# EAGLE library part XC3S200-4FT256I (library SamacSys_Parts)
FPGA - Field Programmable Gate Array 200000 SYSTEM GATE 1.2 VOLT FPGA Source: Datasheet <http://www.xilinx.com/support/documentation/data_sheets/ds099.pdf>
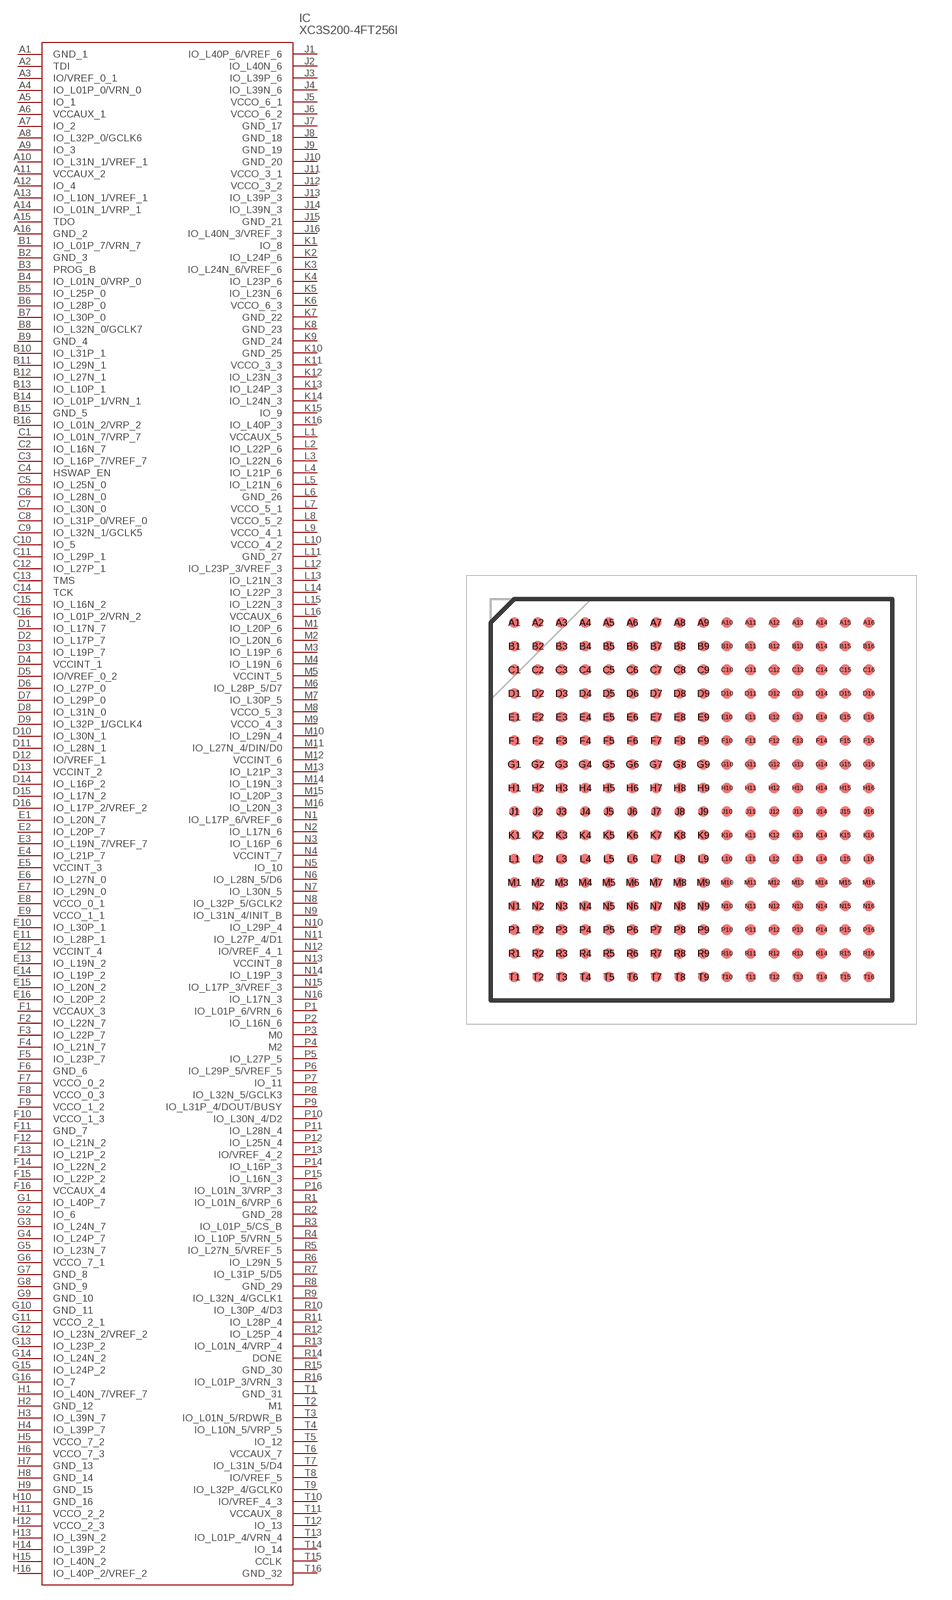
[diagram p180: symbol with the pads of BGA256C100P16X16_1700X1700X155; footprint BGA256C100P16X16_1700X1700X155]

Designator prefix IC

## XC3S200-4FT256I (DESCRIPTION: FPGA - Field Programmable Gate Array 200000 SYSTEM GATE 1.2 VOLT FPGA; HEIGHT: 1.55mm; MANUFACTURER_NAME: XILINX; MANUFACTURER_PART_NUMBER: XC3S200-4FT256I; MOUSER_PART_NUMBER: 217-XC3S200-4FT256I; MOUSER_PRICE-STOCK: https://www.mouser.co.uk/ProductDetail/Xilinx/XC3S200-4FT256I?qs=rrS6PyfT74esfp1HZHSLZw%3D%3D)  [BGA256C100P16X16_1700X1700X155]
A1  GND_1
A2  TDI
A3  IO/VREF_0_1
A4  IO_L01P_0/VRN_0
A5  IO_1
A6  VCCAUX_1
A7  IO_2
A8  IO_L32P_0/GCLK6
A9  IO_3
A10  IO_L31N_1/VREF_1
A11  VCCAUX_2
A12  IO_4
A13  IO_L10N_1/VREF_1
A14  IO_L01N_1/VRP_1
A15  TDO
A16  GND_2
B1  IO_L01P_7/VRN_7
B2  GND_3
B3  PROG_B
B4  IO_L01N_0/VRP_0
B5  IO_L25P_0
B6  IO_L28P_0
B7  IO_L30P_0
B8  IO_L32N_0/GCLK7
B9  GND_4
B10  IO_L31P_1
B11  IO_L29N_1
B12  IO_L27N_1
B13  IO_L10P_1
B14  IO_L01P_1/VRN_1
B15  GND_5
B16  IO_L01N_2/VRP_2
C1  IO_L01N_7/VRP_7
C2  IO_L16N_7
C3  IO_L16P_7/VREF_7
C4  HSWAP_EN
C5  IO_L25N_0
C6  IO_L28N_0
C7  IO_L30N_0
C8  IO_L31P_0/VREF_0
C9  IO_L32N_1/GCLK5
C10  IO_5
C11  IO_L29P_1
C12  IO_L27P_1
C13  TMS
C14  TCK
C15  IO_L16N_2
C16  IO_L01P_2/VRN_2
D1  IO_L17N_7
D2  IO_L17P_7
D3  IO_L19P_7
D4  VCCINT_1
D5  IO/VREF_0_2
D6  IO_L27P_0
D7  IO_L29P_0
D8  IO_L31N_0
D9  IO_L32P_1/GCLK4
D10  IO_L30N_1
D11  IO_L28N_1
D12  IO/VREF_1
D13  VCCINT_2
D14  IO_L16P_2
D15  IO_L17N_2
D16  IO_L17P_2/VREF_2
E1  IO_L20N_7
E2  IO_L20P_7
E3  IO_L19N_7/VREF_7
E4  IO_L21P_7
E5  VCCINT_3
E6  IO_L27N_0
E7  IO_L29N_0
E8  VCCO_0_1
E9  VCCO_1_1
E10  IO_L30P_1
E11  IO_L28P_1
E12  VCCINT_4
E13  IO_L19N_2
E14  IO_L19P_2
E15  IO_L20N_2
E16  IO_L20P_2
F1  VCCAUX_3
F2  IO_L22N_7
F3  IO_L22P_7
F4  IO_L21N_7
F5  IO_L23P_7
F6  GND_6
F7  VCCO_0_2
F8  VCCO_0_3
F9  VCCO_1_2
F10  VCCO_1_3
F11  GND_7
F12  IO_L21N_2
F13  IO_L21P_2
F14  IO_L22N_2
F15  IO_L22P_2
F16  VCCAUX_4
G1  IO_L40P_7
G2  IO_6
G3  IO_L24N_7
G4  IO_L24P_7
G5  IO_L23N_7
G6  VCCO_7_1
G7  GND_8
G8  GND_9
G9  GND_10
G10  GND_11
G11  VCCO_2_1
G12  IO_L23N_2/VREF_2
G13  IO_L23P_2
G14  IO_L24N_2
G15  IO_L24P_2
G16  IO_7
H1  IO_L40N_7/VREF_7
H2  GND_12
H3  IO_L39N_7
H4  IO_L39P_7
H5  VCCO_7_2
H6  VCCO_7_3
H7  GND_13
H8  GND_14
H9  GND_15
H10  GND_16
H11  VCCO_2_2
H12  VCCO_2_3
H13  IO_L39N_2
H14  IO_L39P_2
H15  IO_L40N_2
H16  IO_L40P_2/VREF_2
J1  IO_L40P_6/VREF_6
J2  IO_L40N_6
J3  IO_L39P_6
J4  IO_L39N_6
J5  VCCO_6_1
J6  VCCO_6_2
J7  GND_17
J8  GND_18
J9  GND_19
J10  GND_20
J11  VCCO_3_1
J12  VCCO_3_2
J13  IO_L39P_3
J14  IO_L39N_3
J15  GND_21
J16  IO_L40N_3/VREF_3
K1  IO_8
K2  IO_L24P_6
K3  IO_L24N_6/VREF_6
K4  IO_L23P_6
K5  IO_L23N_6
K6  VCCO_6_3
K7  GND_22
K8  GND_23
K9  GND_24
K10  GND_25
K11  VCCO_3_3
K12  IO_L23N_3
K13  IO_L24P_3
K14  IO_L24N_3
K15  IO_9
K16  IO_L40P_3
L1  VCCAUX_5
L2  IO_L22P_6
L3  IO_L22N_6
L4  IO_L21P_6
L5  IO_L21N_6
L6  GND_26
L7  VCCO_5_1
L8  VCCO_5_2
L9  VCCO_4_1
L10  VCCO_4_2
L11  GND_27
L12  IO_L23P_3/VREF_3
L13  IO_L21N_3
L14  IO_L22P_3
L15  IO_L22N_3
L16  VCCAUX_6
M1  IO_L20P_6
M2  IO_L20N_6
M3  IO_L19P_6
M4  IO_L19N_6
M5  VCCINT_5
M6  IO_L28P_5/D7
M7  IO_L30P_5
M8  VCCO_5_3
M9  VCCO_4_3
M10  IO_L29N_4
M11  IO_L27N_4/DIN/D0
M12  VCCINT_6
M13  IO_L21P_3
M14  IO_L19N_3
M15  IO_L20P_3
M16  IO_L20N_3
N1  IO_L17P_6/VREF_6
N2  IO_L17N_6
N3  IO_L16P_6
N4  VCCINT_7
N5  IO_10
N6  IO_L28N_5/D6
N7  IO_L30N_5
N8  IO_L32P_5/GCLK2
N9  IO_L31N_4/INIT_B
N10  IO_L29P_4
N11  IO_L27P_4/D1
N12  IO/VREF_4_1
N13  VCCINT_8
N14  IO_L19P_3
N15  IO_L17P_3/VREF_3
N16  IO_L17N_3
P1  IO_L01P_6/VRN_6
P2  IO_L16N_6
P3  M0
P4  M2
P5  IO_L27P_5
P6  IO_L29P_5/VREF_5
P7  IO_11
P8  IO_L32N_5/GCLK3
P9  IO_L31P_4/DOUT/BUSY
P10  IO_L30N_4/D2
P11  IO_L28N_4
P12  IO_L25N_4
P13  IO/VREF_4_2
P14  IO_L16P_3
P15  IO_L16N_3
P16  IO_L01N_3/VRP_3
R1  IO_L01N_6/VRP_6
R2  GND_28
R3  IO_L01P_5/CS_B
R4  IO_L10P_5/VRN_5
R5  IO_L27N_5/VREF_5
R6  IO_L29N_5
R7  IO_L31P_5/D5
R8  GND_29
R9  IO_L32N_4/GCLK1
R10  IO_L30P_4/D3
R11  IO_L28P_4
R12  IO_L25P_4
R13  IO_L01N_4/VRP_4
R14  DONE
R15  GND_30
R16  IO_L01P_3/VRN_3
T1  GND_31
T2  M1
T3  IO_L01N_5/RDWR_B
T4  IO_L10N_5/VRP_5
T5  IO_12
T6  VCCAUX_7
T7  IO_L31N_5/D4
T8  IO/VREF_5
T9  IO_L32P_4/GCLK0
T10  IO/VREF_4_3
T11  VCCAUX_8
T12  IO_13
T13  IO_L01P_4/VRN_4
T14  IO_14
T15  CCLK
T16  GND_32

## Footprint BGA256C100P16X16_1700X1700X155 (pad centres in mm)
FT(G)256
smd 0.45 x 0.45: A1 -7.5,7.5; A2 -6.5,7.5; A3 -5.5,7.5; A4 -4.5,7.5; A5 -3.5,7.5; A6 -2.5,7.5; A7 -1.5,7.5; A8 -0.5,7.5; A9 0.5,7.5; A10 1.5,7.5; A11 2.5,7.5; A12 3.5,7.5; A13 4.5,7.5; A14 5.5,7.5; A15 6.5,7.5; A16 7.5,7.5; B1 -7.5,6.5; B2 -6.5,6.5; B3 -5.5,6.5; B4 -4.5,6.5; B5 -3.5,6.5; B6 -2.5,6.5; B7 -1.5,6.5; B8 -0.5,6.5; B9 0.5,6.5; B10 1.5,6.5; B11 2.5,6.5; B12 3.5,6.5; B13 4.5,6.5; B14 5.5,6.5; B15 6.5,6.5; B16 7.5,6.5; C1 -7.5,5.5; C2 -6.5,5.5; C3 -5.5,5.5; C4 -4.5,5.5; C5 -3.5,5.5; C6 -2.5,5.5; C7 -1.5,5.5; C8 -0.5,5.5; C9 0.5,5.5; C10 1.5,5.5; C11 2.5,5.5; C12 3.5,5.5; C13 4.5,5.5; C14 5.5,5.5; C15 6.5,5.5; C16 7.5,5.5; D1 -7.5,4.5; D2 -6.5,4.5; D3 -5.5,4.5; D4 -4.5,4.5; D5 -3.5,4.5; D6 -2.5,4.5; D7 -1.5,4.5; D8 -0.5,4.5; D9 0.5,4.5; D10 1.5,4.5; D11 2.5,4.5; D12 3.5,4.5; D13 4.5,4.5; D14 5.5,4.5; D15 6.5,4.5; D16 7.5,4.5; E1 -7.5,3.5; E2 -6.5,3.5; E3 -5.5,3.5; E4 -4.5,3.5; E5 -3.5,3.5; E6 -2.5,3.5; E7 -1.5,3.5; E8 -0.5,3.5; E9 0.5,3.5; E10 1.5,3.5; E11 2.5,3.5; E12 3.5,3.5; E13 4.5,3.5; E14 5.5,3.5; E15 6.5,3.5; E16 7.5,3.5; F1 -7.5,2.5; F2 -6.5,2.5; F3 -5.5,2.5; F4 -4.5,2.5; F5 -3.5,2.5; F6 -2.5,2.5; F7 -1.5,2.5; F8 -0.5,2.5; F9 0.5,2.5; F10 1.5,2.5; F11 2.5,2.5; F12 3.5,2.5; F13 4.5,2.5; F14 5.5,2.5; F15 6.5,2.5; F16 7.5,2.5; G1 -7.5,1.5; G2 -6.5,1.5; G3 -5.5,1.5; G4 -4.5,1.5; G5 -3.5,1.5; G6 -2.5,1.5; G7 -1.5,1.5; G8 -0.5,1.5; G9 0.5,1.5; G10 1.5,1.5; G11 2.5,1.5; G12 3.5,1.5; G13 4.5,1.5; G14 5.5,1.5; G15 6.5,1.5; G16 7.5,1.5; H1 -7.5,0.5; H2 -6.5,0.5; H3 -5.5,0.5; H4 -4.5,0.5; H5 -3.5,0.5; H6 -2.5,0.5; H7 -1.5,0.5; H8 -0.5,0.5; H9 0.5,0.5; H10 1.5,0.5; H11 2.5,0.5; H12 3.5,0.5; H13 4.5,0.5; H14 5.5,0.5; H15 6.5,0.5; H16 7.5,0.5; J1 -7.5,-0.5; J2 -6.5,-0.5; J3 -5.5,-0.5; J4 -4.5,-0.5; J5 -3.5,-0.5; J6 -2.5,-0.5; J7 -1.5,-0.5; J8 -0.5,-0.5; J9 0.5,-0.5; J10 1.5,-0.5; J11 2.5,-0.5; J12 3.5,-0.5; J13 4.5,-0.5; J14 5.5,-0.5; J15 6.5,-0.5; J16 7.5,-0.5; K1 -7.5,-1.5; K2 -6.5,-1.5; K3 -5.5,-1.5; K4 -4.5,-1.5; K5 -3.5,-1.5; K6 -2.5,-1.5; K7 -1.5,-1.5; K8 -0.5,-1.5; K9 0.5,-1.5; K10 1.5,-1.5; K11 2.5,-1.5; K12 3.5,-1.5; K13 4.5,-1.5; K14 5.5,-1.5; K15 6.5,-1.5; K16 7.5,-1.5; L1 -7.5,-2.5; L2 -6.5,-2.5; L3 -5.5,-2.5; L4 -4.5,-2.5; L5 -3.5,-2.5; L6 -2.5,-2.5; L7 -1.5,-2.5; L8 -0.5,-2.5; L9 0.5,-2.5; L10 1.5,-2.5; L11 2.5,-2.5; L12 3.5,-2.5; L13 4.5,-2.5; L14 5.5,-2.5; L15 6.5,-2.5; L16 7.5,-2.5; M1 -7.5,-3.5; M2 -6.5,-3.5; M3 -5.5,-3.5; M4 -4.5,-3.5; M5 -3.5,-3.5; M6 -2.5,-3.5; M7 -1.5,-3.5; M8 -0.5,-3.5; M9 0.5,-3.5; M10 1.5,-3.5; M11 2.5,-3.5; M12 3.5,-3.5; M13 4.5,-3.5; M14 5.5,-3.5; M15 6.5,-3.5; M16 7.5,-3.5; N1 -7.5,-4.5; N2 -6.5,-4.5; N3 -5.5,-4.5; N4 -4.5,-4.5; N5 -3.5,-4.5; N6 -2.5,-4.5; N7 -1.5,-4.5; N8 -0.5,-4.5; N9 0.5,-4.5; N10 1.5,-4.5; N11 2.5,-4.5; N12 3.5,-4.5; N13 4.5,-4.5; N14 5.5,-4.5; N15 6.5,-4.5; N16 7.5,-4.5; P1 -7.5,-5.5; P2 -6.5,-5.5; P3 -5.5,-5.5; P4 -4.5,-5.5; P5 -3.5,-5.5; P6 -2.5,-5.5; P7 -1.5,-5.5; P8 -0.5,-5.5; P9 0.5,-5.5; P10 1.5,-5.5; P11 2.5,-5.5; P12 3.5,-5.5; P13 4.5,-5.5; P14 5.5,-5.5; P15 6.5,-5.5; P16 7.5,-5.5; R1 -7.5,-6.5; R2 -6.5,-6.5; R3 -5.5,-6.5; R4 -4.5,-6.5; R5 -3.5,-6.5; R6 -2.5,-6.5; R7 -1.5,-6.5; R8 -0.5,-6.5; R9 0.5,-6.5; R10 1.5,-6.5; R11 2.5,-6.5; R12 3.5,-6.5; R13 4.5,-6.5; R14 5.5,-6.5; R15 6.5,-6.5; R16 7.5,-6.5; T1 -7.5,-7.5; T2 -6.5,-7.5; T3 -5.5,-7.5; T4 -4.5,-7.5; T5 -3.5,-7.5; T6 -2.5,-7.5; T7 -1.5,-7.5; T8 -0.5,-7.5; T9 0.5,-7.5; T10 1.5,-7.5; T11 2.5,-7.5; T12 3.5,-7.5; T13 4.5,-7.5; T14 5.5,-7.5; T15 6.5,-7.5; T16 7.5,-7.5